# Altium integrated library TI Audio CODEC.IntLib: 199 symbols (part 9 of 17)
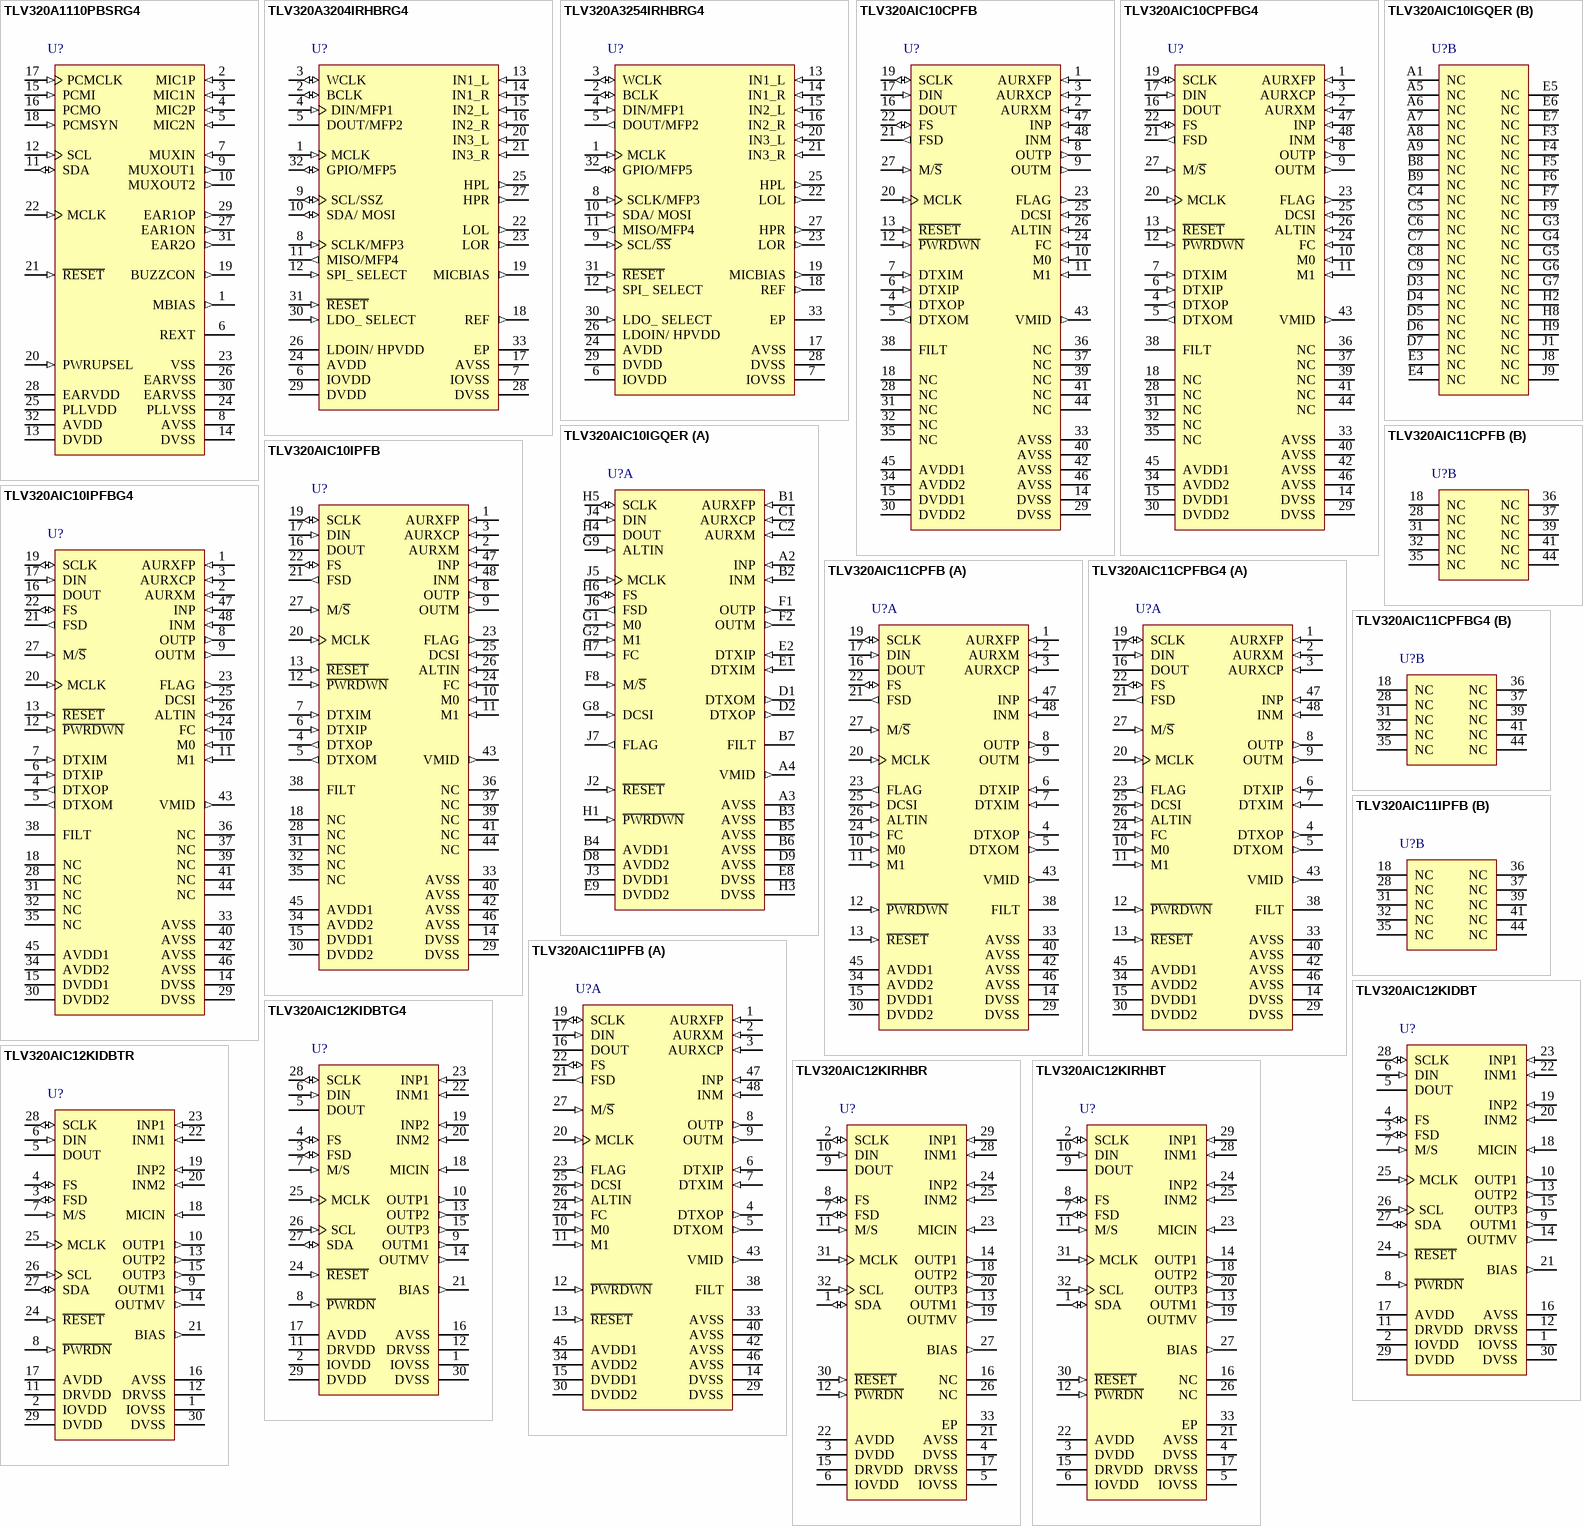
[diagram p21: symbols TLV320A1110PBSRG4 to TLV320AIC12KIRHBT]

## TLV320AIC11CPFB
designator U?
Low-Power Mono Voice Band CODEC with 1 ADC and 1 DAC, 90 dB DAC SNR, 0 to 70 degC, 48-pin TQFP (PFB), Green (RoHS & no Sb/Br); Manufacturer: Texas Instruments; PartNumber: TLV320AIC11CPFB; # ADCs (typ): 1; Additional Features: Low-Voltage I/O Interface; Battery Powered: TRUE; Control Interface: H/W; DAC SNR: 90; Digital Audio Interfaces: DSP; Sampling Rate (Max) (kHz): 22.05; DatasheetVersion: SLWS100A; PackageVersion: Jan-1998; PackageReference: PFB48; PackageDescription: 48-Pin Thin Plastic Quad Flat Pack 0.5 mm Pitch; Supplier 1: Digi-Key; Supplier Part Number 1: 296-2215-ND; Supplier 2: Newark; Supplier Part Number 2: 76C8694; Supplier 3: Mouser; Supplier Part Number 3: 595-TLV320AIC11CPFB; # DACs: 1; Mounting Technology: Surface Mount; Code_JEDEC: MS-026; ComponentLink1Description: Datasheet; ComponentLink1URL: http://www.ti.com/general/docs/lit/getliterature.tsp?genericPartNumber=TLV320AIC11&fileType=pdf
footprint PFB48_N (Thin QFP, 48-Leads, Body 7x7mm, Pitch 0.5mm, IPC Medium Density)
footprint PFB48_L (Thin QFP, 48-Leads, Body 7x7mm, Pitch 0.5mm, IPC High Density)
footprint PFB48_M (Thin QFP, 48-Leads, Body 7x7mm, Pitch 0.5mm, IPC Low Density)
part A pins: 1 AURXFP (in) "Receiver-path amplifier A1 feedback, or noninverting input to auxiliary analog input. It needs to be connected to AVSS if not used. It can also be used for general-purpose amplification.", 2 AURXM (in) "Receiver-path amplifier A1 inverting input, or inverting input to auxiliary analog input. It needs to be connected to AVSS if not used. It can also be used for general-purpose amplification.", 3 AURXCP (in) "Receiver-path/GP amplifier noninverting input. It needs to be connected to AVSS if not used.", 4 DTXOP (out) "Transmitter-path amplifier A3 feedback for positive output. It can also be used for general-purpose amplification.", 5 DTXOM (out) "Transmitter path amplifier A4 feedback for negative output. It can also be used for general-purpose amplification.", 6 DTXIP (in) "Transmitter-path amplifier A4 analog noninverting input. Can also be used for general-purpose amplification.", 7 DTXIM (in) "Transmitter-path amplifier A3 analog inverting input. It can also be used for general-purpose amplification.", 8 OUTP (out) "DAC’s noninverting output. OUTP can also be used alone for single-ended operation.", 9 OUTM (out) "DAC’s inverting output. OUTM is functionally identical with and complementary to OUTP", 10 M0 (in) "Combine with M1 to select serial interface mode (frame-sync mode)", 11 M1 (in) "Combine with M0 to select serial interface mode (frame-sync mode)", 12 ~{PWRDWN} (in) "Power down. When P\W\R\D\W\N\ is pulled low, the device goes into a power-down mode, the serial interface is disabled, and most of the high-speed clocks are disabled. However, all register values are sustained and the device (See Datasheet)", 13 ~{RESET} (in) "Reset. The reset function is provided to initialize all the internal registers to their default values. The serial port can be configured to the default state accordingly. See Appendix A, Register Set, and Subsection 2.2.1, (See Datasheet)", 14 DVSS (power) "Digital ground", 15 DVDD1 (power) "Dedicated 1.1-V to 3.6-V digital power supply for low-voltage I/O", 16 DOUT (hiz) "Data output. DOUT transmits the ADC output bits and registers data, and is synchronized to SCLK and FS. Data is sent out at the rising edge of SCLK when FS is low. DOUT is at high impedance when FS is not activated.", 17 DIN (in) "Data input. DIN receives the DAC input data and register data from the external digital signal processor (DSP), and is synchronized to SCLK and FS. Data is latched at the falling edge of SCLK when FS is low. DIN is at high (See Datasheet)", 19 SCLK (io) "Shift clock. SCLK signal clocks serial data into DIN and out of DOUT during the frame-sync interval. When configured as an output (M/S\ high), SCLK is generated internally by multiplying the frame-sync signal frequency by (See Datasheet)", 20 MCLK (in) "Master clock. MCLK derives the internal clocks of the sigma-delta analog interface circuit.", 21 FSD (out) "Frame-sync delayed output. The FSD output synchronizes a slave device to the frame sync of the master device. FSD is applied to the slave FS input and has the same duration as the master FS signal. Requires a pullup resistor (See Datasheet)", 22 FS (io) "Frame sync. When FS goes low, DIN begins receiving data bits and DOUT begins transmitting data bits. In master mode, FS is internally generated and is low during data transmission to DIN and from DOUT. In slave mode, FS is (See Datasheet)", 23 FLAG (out) "Controlled by bit D4 of control register 3. If D4=0 (default), the FLAG pin outputs the communication flag that goes low/high to indicate primary-communication/secondary-communication interval, respectively. If D4=1, the (See Datasheet)", 24 FC (in) "Hardware request for secondary communication", 25 DCSI (in) "Direct configuration serial input for directly programming of internal control registers", 26 ALTIN (in) "Serial input in the event monitor mode", 27 M/~{S} (in) "Master/slave select input. When M/S\ is high, the device is the master, and when M/S\ is low, it is a slave.", 29 DVSS (power) "Digital ground", 30 DVDD2 (power) "Dedicated 3-V to 5.5-V digital power supply for core CODEC", 33 AVSS (power) "Analog ground", 34 AVDD2 (power) "Analog ADC power supply (3 V to 5.5 V)", 38 FILT "Bandgap filter. FILT is provided for decoupling of the bandgap reference, and provides 2.5 V. The optimal capacitor value is 0.1 μF (ceramic). This voltage node should be loaded only with a high-impedance dc load.", 40 AVSS (power) "Analog ground", 42 AVSS (power) "Analog ground", 43 VMID (out) "Reference voltage output at AVDD/2", 45 AVDD1 (power) "Analog ADC power supply (3 V to 5.5 V)", 46 AVSS (power) "Analog ground", 47 INP (in) "Noninverting input to analog modulator. INP requires an external R-C antialias filter with low output impedance if the internal antialias filter is bypassed.", 48 INM (in) "Inverting input to analog modulator. INM requires an external R-C antialias filter with low output impedance if the internal antialias filter is bypassed."
part B pins: 18 NC "No connection", 28 NC "No connection", 31 NC "No connection", 32 NC "No connection", 35 NC "No connection", 36 NC "No connection", 37 NC "No connection", 39 NC "No connection", 41 NC "No connection", 44 NC "No connection"

## TLV320AIC11CPFBG4
designator U?
Low-Power Mono Voice Band CODEC with 1 ADC and 1 DAC, 90 dB DAC SNR, 0 to 70 degC, 48-pin TQFP (PFB), Green (RoHS & no Sb/Br); Manufacturer: Texas Instruments; PartNumber: TLV320AIC11CPFBG4; # ADCs (typ): 1; Additional Features: Low-Voltage I/O Interface; Battery Powered: TRUE; Control Interface: H/W; DAC SNR: 90; Digital Audio Interfaces: DSP; Sampling Rate (Max) (kHz): 22.05; DatasheetVersion: SLWS100A; PackageVersion: Jan-1998; PackageReference: PFB48; PackageDescription: 48-Pin Thin Plastic Quad Flat Pack 0.5 mm Pitch; Supplier 1: Digi-Key; Supplier Part Number 1: TLV320AIC11CPFBG4-ND; Supplier 2: Newark; Supplier Part Number 2: 54K1332; Supplier 3: Mouser; Supplier Part Number 3: 595-TLV320AIC11CPFBG; # DACs: 1; Mounting Technology: Surface Mount; Code_JEDEC: MS-026; ComponentLink1Description: Datasheet; ComponentLink1URL: http://www.ti.com/general/docs/lit/getliterature.tsp?genericPartNumber=TLV320AIC11&fileType=pdf
footprint PFB48_N (Thin QFP, 48-Leads, Body 7x7mm, Pitch 0.5mm, IPC Medium Density)
footprint PFB48_L (Thin QFP, 48-Leads, Body 7x7mm, Pitch 0.5mm, IPC High Density)
footprint PFB48_M (Thin QFP, 48-Leads, Body 7x7mm, Pitch 0.5mm, IPC Low Density)
part A pins: 1 AURXFP (in) "Receiver-path amplifier A1 feedback, or noninverting input to auxiliary analog input. It needs to be connected to AVSS if not used. It can also be used for general-purpose amplification.", 2 AURXM (in) "Receiver-path amplifier A1 inverting input, or inverting input to auxiliary analog input. It needs to be connected to AVSS if not used. It can also be used for general-purpose amplification.", 3 AURXCP (in) "Receiver-path/GP amplifier noninverting input. It needs to be connected to AVSS if not used.", 4 DTXOP (out) "Transmitter-path amplifier A3 feedback for positive output. It can also be used for general-purpose amplification.", 5 DTXOM (out) "Transmitter path amplifier A4 feedback for negative output. It can also be used for general-purpose amplification.", 6 DTXIP (in) "Transmitter-path amplifier A4 analog noninverting input. Can also be used for general-purpose amplification.", 7 DTXIM (in) "Transmitter-path amplifier A3 analog inverting input. It can also be used for general-purpose amplification.", 8 OUTP (out) "DAC’s noninverting output. OUTP can also be used alone for single-ended operation.", 9 OUTM (out) "DAC’s inverting output. OUTM is functionally identical with and complementary to OUTP", 10 M0 (in) "Combine with M1 to select serial interface mode (frame-sync mode)", 11 M1 (in) "Combine with M0 to select serial interface mode (frame-sync mode)", 12 ~{PWRDWN} (in) "Power down. When P\W\R\D\W\N\ is pulled low, the device goes into a power-down mode, the serial interface is disabled, and most of the high-speed clocks are disabled. However, all register values are sustained and the device (See Datasheet)", 13 ~{RESET} (in) "Reset. The reset function is provided to initialize all the internal registers to their default values. The serial port can be configured to the default state accordingly. See Appendix A, Register Set, and Subsection 2.2.1, (See Datasheet)", 14 DVSS (power) "Digital ground", 15 DVDD1 (power) "Dedicated 1.1-V to 3.6-V digital power supply for low-voltage I/O", 16 DOUT (hiz) "Data output. DOUT transmits the ADC output bits and registers data, and is synchronized to SCLK and FS. Data is sent out at the rising edge of SCLK when FS is low. DOUT is at high impedance when FS is not activated.", 17 DIN (in) "Data input. DIN receives the DAC input data and register data from the external digital signal processor (DSP), and is synchronized to SCLK and FS. Data is latched at the falling edge of SCLK when FS is low. DIN is at high (See Datasheet)", 19 SCLK (io) "Shift clock. SCLK signal clocks serial data into DIN and out of DOUT during the frame-sync interval. When configured as an output (M/S\ high), SCLK is generated internally by multiplying the frame-sync signal frequency by (See Datasheet)", 20 MCLK (in) "Master clock. MCLK derives the internal clocks of the sigma-delta analog interface circuit.", 21 FSD (out) "Frame-sync delayed output. The FSD output synchronizes a slave device to the frame sync of the master device. FSD is applied to the slave FS input and has the same duration as the master FS signal. Requires a pullup resistor (See Datasheet)", 22 FS (io) "Frame sync. When FS goes low, DIN begins receiving data bits and DOUT begins transmitting data bits. In master mode, FS is internally generated and is low during data transmission to DIN and from DOUT. In slave mode, FS is (See Datasheet)", 23 FLAG (out) "Controlled by bit D4 of control register 3. If D4=0 (default), the FLAG pin outputs the communication flag that goes low/high to indicate primary-communication/secondary-communication interval, respectively. If D4=1, the (See Datasheet)", 24 FC (in) "Hardware request for secondary communication", 25 DCSI (in) "Direct configuration serial input for directly programming of internal control registers", 26 ALTIN (in) "Serial input in the event monitor mode", 27 M/~{S} (in) "Master/slave select input. When M/S\ is high, the device is the master, and when M/S\ is low, it is a slave.", 29 DVSS (power) "Digital ground", 30 DVDD2 (power) "Dedicated 3-V to 5.5-V digital power supply for core CODEC", 33 AVSS (power) "Analog ground", 34 AVDD2 (power) "Analog ADC power supply (3 V to 5.5 V)", 38 FILT "Bandgap filter. FILT is provided for decoupling of the bandgap reference, and provides 2.5 V. The optimal capacitor value is 0.1 μF (ceramic). This voltage node should be loaded only with a high-impedance dc load.", 40 AVSS (power) "Analog ground", 42 AVSS (power) "Analog ground", 43 VMID (out) "Reference voltage output at AVDD/2", 45 AVDD1 (power) "Analog ADC power supply (3 V to 5.5 V)", 46 AVSS (power) "Analog ground", 47 INP (in) "Noninverting input to analog modulator. INP requires an external R-C antialias filter with low output impedance if the internal antialias filter is bypassed.", 48 INM (in) "Inverting input to analog modulator. INM requires an external R-C antialias filter with low output impedance if the internal antialias filter is bypassed."
part B pins: 18 NC "No connection", 28 NC "No connection", 31 NC "No connection", 32 NC "No connection", 35 NC "No connection", 36 NC "No connection", 37 NC "No connection", 39 NC "No connection", 41 NC "No connection", 44 NC "No connection"

## TLV320AIC11IPFB
designator U?
Low-Power Mono Voice Band CODEC, 90 dB DAC SNR, -40 to 85 degC, 48-pin TQFP (PFB), Green (RoHS & no Sb/Br); Manufacturer: Texas Instruments; PartNumber: TLV320AIC11IPFB; # ADCs (typ): 1; Additional Features: Low-Voltage I/O Interface; Battery Powered: TRUE; Control Interface: H/W; DAC SNR: 90; Digital Audio Interfaces: DSP; Sampling Rate (Max) (kHz): 22.05; DatasheetVersion: SLWS100A; PackageVersion: Jan-1998; PackageReference: PFB48; PackageDescription: 48-Pin Thin Plastic Quad Flat Pack 0.5 mm Pitch; Supplier 1: Digi-Key; Supplier Part Number 1: 296-10703-ND; Supplier 2: Newark; Supplier Part Number 2: 76C8696; Supplier 3: Mouser; Supplier Part Number 3: 595-TLV320AIC11IPFB; # DACs: 1; Mounting Technology: Surface Mount; Code_JEDEC: MS-026; ComponentLink1Description: Datasheet; ComponentLink1URL: http://www.ti.com/general/docs/lit/getliterature.tsp?genericPartNumber=TLV320AIC11&fileType=pdf
footprint PFB48_N (Thin QFP, 48-Leads, Body 7x7mm, Pitch 0.5mm, IPC Medium Density)
footprint PFB48_L (Thin QFP, 48-Leads, Body 7x7mm, Pitch 0.5mm, IPC High Density)
footprint PFB48_M (Thin QFP, 48-Leads, Body 7x7mm, Pitch 0.5mm, IPC Low Density)
part A pins: 1 AURXFP (in) "Receiver-path amplifier A1 feedback, or noninverting input to auxiliary analog input. It needs to be connected to AVSS if not used. It can also be used for general-purpose amplification.", 2 AURXM (in) "Receiver-path amplifier A1 inverting input, or inverting input to auxiliary analog input. It needs to be connected to AVSS if not used. It can also be used for general-purpose amplification.", 3 AURXCP (in) "Receiver-path/GP amplifier noninverting input. It needs to be connected to AVSS if not used.", 4 DTXOP (out) "Transmitter-path amplifier A3 feedback for positive output. It can also be used for general-purpose amplification.", 5 DTXOM (out) "Transmitter path amplifier A4 feedback for negative output. It can also be used for general-purpose amplification.", 6 DTXIP (in) "Transmitter-path amplifier A4 analog noninverting input. Can also be used for general-purpose amplification.", 7 DTXIM (in) "Transmitter-path amplifier A3 analog inverting input. It can also be used for general-purpose amplification.", 8 OUTP (out) "DAC’s noninverting output. OUTP can also be used alone for single-ended operation.", 9 OUTM (out) "DAC’s inverting output. OUTM is functionally identical with and complementary to OUTP", 10 M0 (in) "Combine with M1 to select serial interface mode (frame-sync mode)", 11 M1 (in) "Combine with M0 to select serial interface mode (frame-sync mode)", 12 ~{PWRDWN} (in) "Power down. When P\W\R\D\W\N\ is pulled low, the device goes into a power-down mode, the serial interface is disabled, and most of the high-speed clocks are disabled. However, all register values are sustained and the device (See Datasheet)", 13 ~{RESET} (in) "Reset. The reset function is provided to initialize all the internal registers to their default values. The serial port can be configured to the default state accordingly. See Appendix A, Register Set, and Subsection 2.2.1, (See Datasheet)", 14 DVSS (power) "Digital ground", 15 DVDD1 (power) "Dedicated 1.1-V to 3.6-V digital power supply for low-voltage I/O", 16 DOUT (hiz) "Data output. DOUT transmits the ADC output bits and registers data, and is synchronized to SCLK and FS. Data is sent out at the rising edge of SCLK when FS is low. DOUT is at high impedance when FS is not activated.", 17 DIN (in) "Data input. DIN receives the DAC input data and register data from the external digital signal processor (DSP), and is synchronized to SCLK and FS. Data is latched at the falling edge of SCLK when FS is low. DIN is at high (See Datasheet)", 19 SCLK (io) "Shift clock. SCLK signal clocks serial data into DIN and out of DOUT during the frame-sync interval. When configured as an output (M/S\ high), SCLK is generated internally by multiplying the frame-sync signal frequency by (See Datasheet)", 20 MCLK (in) "Master clock. MCLK derives the internal clocks of the sigma-delta analog interface circuit.", 21 FSD (out) "Frame-sync delayed output. The FSD output synchronizes a slave device to the frame sync of the master device. FSD is applied to the slave FS input and has the same duration as the master FS signal. Requires a pullup resistor (See Datasheet)", 22 FS (io) "Frame sync. When FS goes low, DIN begins receiving data bits and DOUT begins transmitting data bits. In master mode, FS is internally generated and is low during data transmission to DIN and from DOUT. In slave mode, FS is (See Datasheet)", 23 FLAG (out) "Controlled by bit D4 of control register 3. If D4=0 (default), the FLAG pin outputs the communication flag that goes low/high to indicate primary-communication/secondary-communication interval, respectively. If D4=1, the (See Datasheet)", 24 FC (in) "Hardware request for secondary communication", 25 DCSI (in) "Direct configuration serial input for directly programming of internal control registers", 26 ALTIN (in) "Serial input in the event monitor mode", 27 M/~{S} (in) "Master/slave select input. When M/S\ is high, the device is the master, and when M/S\ is low, it is a slave.", 29 DVSS (power) "Digital ground", 30 DVDD2 (power) "Dedicated 3-V to 5.5-V digital power supply for core CODEC", 33 AVSS (power) "Analog ground", 34 AVDD2 (power) "Analog ADC power supply (3 V to 5.5 V)", 38 FILT "Bandgap filter. FILT is provided for decoupling of the bandgap reference, and provides 2.5 V. The optimal capacitor value is 0.1 μF (ceramic). This voltage node should be loaded only with a high-impedance dc load.", 40 AVSS (power) "Analog ground", 42 AVSS (power) "Analog ground", 43 VMID (out) "Reference voltage output at AVDD/2", 45 AVDD1 (power) "Analog ADC power supply (3 V to 5.5 V)", 46 AVSS (power) "Analog ground", 47 INP (in) "Noninverting input to analog modulator. INP requires an external R-C antialias filter with low output impedance if the internal antialias filter is bypassed.", 48 INM (in) "Inverting input to analog modulator. INM requires an external R-C antialias filter with low output impedance if the internal antialias filter is bypassed."
part B pins: 18 NC "No connection", 28 NC "No connection", 31 NC "No connection", 32 NC "No connection", 35 NC "No connection", 36 NC "No connection", 37 NC "No connection", 39 NC "No connection", 41 NC "No connection", 44 NC "No connection"

## TLV320AIC12KIDBT
designator U?
Low-Power Mono Voice Band CODEC with 8-ohm Speaker Amplifier, 1 ADC and 1 DAC, 92 dB DAC SNR, -40 to 85 degC, 30-pin TSSOP (DBT), Green (RoHS & no Sb/Br); Manufacturer: Texas Instruments; PartNumber: TLV320AIC12KIDBT; # ADCs (typ): 1; Additional Features: 8 Ohm Speaker Amplifier; Battery Powered: TRUE; Control Interface: I2C, S2C; DAC SNR: 92; Digital Audio Interfaces: DSP, SMART TDM; Sampling Rate (Max) (kHz): 26; Speaker Amp Output Power(Max)(W): 0.19; Speaker Amp Type: Class-AB; DatasheetVersion: SLWS115E; PackageVersion: Sep-2005; PackageReference: DBT30; PackageDescription: 30-Pin Thin Shrink Small Outline Package 0.5 mm Pitch; Supplier 1: Digi-Key; Supplier Part Number 1: 296-19421-5-ND; Supplier 2: Newark; Supplier Part Number 2: 57K1261; Supplier 3: Mouser; Supplier Part Number 3: 595-LV320AIC12KIDBT; # DACs: 1; Headphone Driver: TRUE; Speaker Amp Ouputs: 1; Mounting Technology: Surface Mount; Code_JEDEC: MO-153; ComponentLink1Description: Datasheet; ComponentLink1URL: http://www.ti.com/general/docs/lit/getliterature.tsp?genericPartNumber=TLV320AIC12K&fileType=pdf
footprint DBT30_N (TSSOP, 30-Leads, Body 7.8x4.4mm, Pitch 0.5mm, IPC Medium Density)
footprint DBT30_L (TSSOP, 30-Leads, Body 7.8x4.4mm, Pitch 0.5mm, IPC High Density)
footprint DBT30_M (TSSOP, 30-Leads, Body 7.8x4.4mm, Pitch 0.5mm, IPC Low Density)
pins: 1 IOVSS (power) "Digital I/O ground", 2 IOVDD (power) "Digital I/O power supply", 3 FSD (io) "Frame sync delayed output. The FSD output synchronizes a slave device to the frame sync of the master device. FSD is applied to the slave FS input and is the same duration as the master FS signal. This pin must be pulled low (See Datasheet)", 4 FS (io) "Frame sync. When FS goes low, DIN begins receiving data bits and DOUT begins transmitting data bits. In master mode, FS is internally generated. In slave mode, FS is externally generated.", 5 DOUT (hiz) "Data output. DOUT transmits the ADC output bits and registers data,and is synchronized to SCLK and FS. Data is sent out at the rising edge of SCLK. Outside data/control frame, DOUT is put in 3-state.", 6 DIN (in) "Data input. DIN receives the DAC input data and register data from the external DSP (digital signal processor) and is synchronized to SCLK and FS. Data is latched at the falling edge of SCLK.", 7 M/S (in) "Master/slave select input. When M/S is high, the device is the master,and when low it is a slave.", 8 ~{PWRDN} (in) "Power down. When P\W\R\D\N\ is pulled low, the device goes into a power-down mode, the serial interface is disabled, and most of the high-speed clocks are disabled. However, all the register values are sustained and the (See Datasheet)", 9 OUTM1 (out) "Inverting output of the DAC. OUTM1 is functionally identical with and complementary to OUTP1. This differential output can drive a maximum load of 600 ohm. This output can also be used alone for single-ended operation.", 10 OUTP1 (out) "Noninverting output of the DAC. This differential output can drive a maximum load of 600 ohm. This output can also be used alone for single-ended operation.", 11 DRVDD (power) "Analog power supply for the 16-ohm drivers OUTP2 and OUTP3", 12 DRVSS (power) "Analog ground for the 16-ohm drivers OUTP2 and OUTP3", 13 OUTP2 (out) "Analog output number 2 from the 16-ohm driver. This output can drive a maximum load of 16 ohm, and also can be configured as either single-ended output or differential output by the control register 6.", 14 OUTMV (out) "Programmable virtual ground for the output of OUTP2 and OUTP3 (see the Register Map).", 15 OUTP3 (out) "Analog output number 3 from the 16-ohm driver. This output can drive a maximum load of 16 ohm, and also be configured as either single-ended output or differential output by the control register 6.", 16 AVSS (power) "Analog ground", 17 AVDD (power) "Analog power supply", 18 MICIN (in) "MIC preamplifier input. It must be connected to AVSS if not used.", 19 INP2 (in) "Noninverting analog input 2. It must be connected to AVSS if not used.", 20 INM2 (in) "Inverting analog input 2. It must be connected to AVSS if not used.", 21 BIAS (out) "Bias output voltage is software selectable between 1.35 V and 2.35 V.Its output current is 5 mA.", 22 INM1 (in) "Inverting analog input 1. It must be connected to AVSS if not used.", 23 INP1 (in) "Noninverting analog input 1. It must be connected to AVSS if not used.", 24 ~{RESET} (in) "Hardware reset. The reset function is provided to initialize all of the internal registers to their default values. The serial port is configured to the default state accordingly.", 25 MCLK (in) "Master clock. MCLK derives the internal clocks of the sigma-delta analog interface circuit.", 26 SCL (in) "Programmable host port (I2C or S2C) clock input.", 27 SDA (io) "Programmable host port (I2C or S2C) data line.", 28 SCLK (io) "Shift clock. SCLK signal clocks serial data into DIN and out of DOUT during the frame-sync interval. When configured as an output (M/S high), SCLK is generated internally by multiplying the frame-sync signal frequency by 16 (See Datasheet)", 29 DVDD (power) "Digital power supply", 30 DVSS (power) "Digital ground"

## TLV320AIC12KIDBTG4
designator U?
Low-Power Mono Voice Band CODEC with 8-ohm Speaker Amplifier, 1 ADC and 1 DAC, 92 dB DAC SNR, -40 to 85 degC, 30-pin TSSOP (DBT), Green (RoHS & no Sb/Br); Manufacturer: Texas Instruments; PartNumber: TLV320AIC12KIDBTG4; # ADCs (typ): 1; Additional Features: 8 Ohm Speaker Amplifier; Battery Powered: TRUE; Control Interface: I2C, S2C; DAC SNR: 92; Digital Audio Interfaces: DSP, SMART TDM; Sampling Rate (Max) (kHz): 26; Speaker Amp Output Power(Max)(W): 0.19; Speaker Amp Type: Class-AB; DatasheetVersion: SLWS115E; PackageVersion: Sep-2005; PackageReference: DBT30; PackageDescription: 30-Pin Thin Shrink Small Outline Package 0.5 mm Pitch; Supplier 1: Digi-Key; Supplier Part Number 1: TLV320AIC12KIDBTG4-ND; Supplier 2: Newark; Supplier Part Number 2: 67K8536; Supplier 3: Mouser; Supplier Part Number 3: 595-TLV320AIC12KIDBT; # DACs: 1; Headphone Driver: TRUE; Speaker Amp Ouputs: 1; Mounting Technology: Surface Mount; Code_JEDEC: MO-153; ComponentLink1Description: Datasheet; ComponentLink1URL: http://www.ti.com/general/docs/lit/getliterature.tsp?genericPartNumber=TLV320AIC12K&fileType=pdf
footprint DBT30_N (TSSOP, 30-Leads, Body 7.8x4.4mm, Pitch 0.5mm, IPC Medium Density)
footprint DBT30_L (TSSOP, 30-Leads, Body 7.8x4.4mm, Pitch 0.5mm, IPC High Density)
footprint DBT30_M (TSSOP, 30-Leads, Body 7.8x4.4mm, Pitch 0.5mm, IPC Low Density)
pins: 1 IOVSS (power) "Digital I/O ground", 2 IOVDD (power) "Digital I/O power supply", 3 FSD (io) "Frame sync delayed output. The FSD output synchronizes a slave device to the frame sync of the master device. FSD is applied to the slave FS input and is the same duration as the master FS signal. This pin must be pulled low (See Datasheet)", 4 FS (io) "Frame sync. When FS goes low, DIN begins receiving data bits and DOUT begins transmitting data bits. In master mode, FS is internally generated. In slave mode, FS is externally generated.", 5 DOUT (hiz) "Data output. DOUT transmits the ADC output bits and registers data,and is synchronized to SCLK and FS. Data is sent out at the rising edge of SCLK. Outside data/control frame, DOUT is put in 3-state.", 6 DIN (in) "Data input. DIN receives the DAC input data and register data from the external DSP (digital signal processor) and is synchronized to SCLK and FS. Data is latched at the falling edge of SCLK.", 7 M/S (in) "Master/slave select input. When M/S is high, the device is the master,and when low it is a slave.", 8 ~{PWRDN} (in) "Power down. When P\W\R\D\N\ is pulled low, the device goes into a power-down mode, the serial interface is disabled, and most of the high-speed clocks are disabled. However, all the register values are sustained and the (See Datasheet)", 9 OUTM1 (out) "Inverting output of the DAC. OUTM1 is functionally identical with and complementary to OUTP1. This differential output can drive a maximum load of 600 ohm. This output can also be used alone for single-ended operation.", 10 OUTP1 (out) "Noninverting output of the DAC. This differential output can drive a maximum load of 600 ohm. This output can also be used alone for single-ended operation.", 11 DRVDD (power) "Analog power supply for the 16-ohm drivers OUTP2 and OUTP3", 12 DRVSS (power) "Analog ground for the 16-ohm drivers OUTP2 and OUTP3", 13 OUTP2 (out) "Analog output number 2 from the 16-ohm driver. This output can drive a maximum load of 16 ohm, and also can be configured as either single-ended output or differential output by the control register 6.", 14 OUTMV (out) "Programmable virtual ground for the output of OUTP2 and OUTP3 (see the Register Map).", 15 OUTP3 (out) "Analog output number 3 from the 16-ohm driver. This output can drive a maximum load of 16 ohm, and also be configured as either single-ended output or differential output by the control register 6.", 16 AVSS (power) "Analog ground", 17 AVDD (power) "Analog power supply", 18 MICIN (in) "MIC preamplifier input. It must be connected to AVSS if not used.", 19 INP2 (in) "Noninverting analog input 2. It must be connected to AVSS if not used.", 20 INM2 (in) "Inverting analog input 2. It must be connected to AVSS if not used.", 21 BIAS (out) "Bias output voltage is software selectable between 1.35 V and 2.35 V.Its output current is 5 mA.", 22 INM1 (in) "Inverting analog input 1. It must be connected to AVSS if not used.", 23 INP1 (in) "Noninverting analog input 1. It must be connected to AVSS if not used.", 24 ~{RESET} (in) "Hardware reset. The reset function is provided to initialize all of the internal registers to their default values. The serial port is configured to the default state accordingly.", 25 MCLK (in) "Master clock. MCLK derives the internal clocks of the sigma-delta analog interface circuit.", 26 SCL (in) "Programmable host port (I2C or S2C) clock input.", 27 SDA (io) "Programmable host port (I2C or S2C) data line.", 28 SCLK (io) "Shift clock. SCLK signal clocks serial data into DIN and out of DOUT during the frame-sync interval. When configured as an output (M/S high), SCLK is generated internally by multiplying the frame-sync signal frequency by 16 (See Datasheet)", 29 DVDD (power) "Digital power supply", 30 DVSS (power) "Digital ground"

## TLV320AIC12KIDBTR
designator U?
Low-Power Mono Voice Band CODEC with 8-ohm Speaker Amplifier, 1 ADC and 1 DAC, 92 dB DAC SNR, -40 to 85 degC, 30-pin TSSOP (DBT), Green (RoHS & no Sb/Br); Manufacturer: Texas Instruments; PartNumber: TLV320AIC12KIDBTR; # ADCs (typ): 1; Additional Features: 8 Ohm Speaker Amplifier; Battery Powered: TRUE; Control Interface: I2C, S2C; DAC SNR: 92; Digital Audio Interfaces: DSP, SMART TDM; Sampling Rate (Max) (kHz): 26; Speaker Amp Output Power(Max)(W): 0.19; Speaker Amp Type: Class-AB; DatasheetVersion: SLWS115E; PackageVersion: Sep-2005; PackageReference: DBT30; PackageDescription: 30-Pin Thin Shrink Small Outline Package 0.5 mm Pitch; Supplier 1: Digi-Key; Supplier Part Number 1: TLV320AIC12KIDBTR-ND; Supplier 2: Newark; Supplier Part Number 2: 63K6490; Supplier 3: Mouser; Supplier Part Number 3: 595-LV320AIC12KIDBTR; # DACs: 1; Headphone Driver: TRUE; Speaker Amp Ouputs: 1; Mounting Technology: Surface Mount; Code_JEDEC: MO-153; ComponentLink1Description: Datasheet; ComponentLink1URL: http://www.ti.com/general/docs/lit/getliterature.tsp?genericPartNumber=TLV320AIC12K&fileType=pdf
footprint DBT30_N (TSSOP, 30-Leads, Body 7.8x4.4mm, Pitch 0.5mm, IPC Medium Density)
footprint DBT30_L (TSSOP, 30-Leads, Body 7.8x4.4mm, Pitch 0.5mm, IPC High Density)
footprint DBT30_M (TSSOP, 30-Leads, Body 7.8x4.4mm, Pitch 0.5mm, IPC Low Density)
pins: 1 IOVSS (power) "Digital I/O ground", 2 IOVDD (power) "Digital I/O power supply", 3 FSD (io) "Frame sync delayed output. The FSD output synchronizes a slave device to the frame sync of the master device. FSD is applied to the slave FS input and is the same duration as the master FS signal. This pin must be pulled low (See Datasheet)", 4 FS (io) "Frame sync. When FS goes low, DIN begins receiving data bits and DOUT begins transmitting data bits. In master mode, FS is internally generated. In slave mode, FS is externally generated.", 5 DOUT (hiz) "Data output. DOUT transmits the ADC output bits and registers data,and is synchronized to SCLK and FS. Data is sent out at the rising edge of SCLK. Outside data/control frame, DOUT is put in 3-state.", 6 DIN (in) "Data input. DIN receives the DAC input data and register data from the external DSP (digital signal processor) and is synchronized to SCLK and FS. Data is latched at the falling edge of SCLK.", 7 M/S (in) "Master/slave select input. When M/S is high, the device is the master,and when low it is a slave.", 8 ~{PWRDN} (in) "Power down. When P\W\R\D\N\ is pulled low, the device goes into a power-down mode, the serial interface is disabled, and most of the high-speed clocks are disabled. However, all the register values are sustained and the (See Datasheet)", 9 OUTM1 (out) "Inverting output of the DAC. OUTM1 is functionally identical with and complementary to OUTP1. This differential output can drive a maximum load of 600 ohm. This output can also be used alone for single-ended operation.", 10 OUTP1 (out) "Noninverting output of the DAC. This differential output can drive a maximum load of 600 ohm. This output can also be used alone for single-ended operation.", 11 DRVDD (power) "Analog power supply for the 16-ohm drivers OUTP2 and OUTP3", 12 DRVSS (power) "Analog ground for the 16-ohm drivers OUTP2 and OUTP3", 13 OUTP2 (out) "Analog output number 2 from the 16-ohm driver. This output can drive a maximum load of 16 ohm, and also can be configured as either single-ended output or differential output by the control register 6.", 14 OUTMV (out) "Programmable virtual ground for the output of OUTP2 and OUTP3 (see the Register Map).", 15 OUTP3 (out) "Analog output number 3 from the 16-ohm driver. This output can drive a maximum load of 16 ohm, and also be configured as either single-ended output or differential output by the control register 6.", 16 AVSS (power) "Analog ground", 17 AVDD (power) "Analog power supply", 18 MICIN (in) "MIC preamplifier input. It must be connected to AVSS if not used.", 19 INP2 (in) "Noninverting analog input 2. It must be connected to AVSS if not used.", 20 INM2 (in) "Inverting analog input 2. It must be connected to AVSS if not used.", 21 BIAS (out) "Bias output voltage is software selectable between 1.35 V and 2.35 V.Its output current is 5 mA.", 22 INM1 (in) "Inverting analog input 1. It must be connected to AVSS if not used.", 23 INP1 (in) "Noninverting analog input 1. It must be connected to AVSS if not used.", 24 ~{RESET} (in) "Hardware reset. The reset function is provided to initialize all of the internal registers to their default values. The serial port is configured to the default state accordingly.", 25 MCLK (in) "Master clock. MCLK derives the internal clocks of the sigma-delta analog interface circuit.", 26 SCL (in) "Programmable host port (I2C or S2C) clock input.", 27 SDA (io) "Programmable host port (I2C or S2C) data line.", 28 SCLK (io) "Shift clock. SCLK signal clocks serial data into DIN and out of DOUT during the frame-sync interval. When configured as an output (M/S high), SCLK is generated internally by multiplying the frame-sync signal frequency by 16 (See Datasheet)", 29 DVDD (power) "Digital power supply", 30 DVSS (power) "Digital ground"

## TLV320AIC12KIRHBR
designator U?
Low-Power Mono Voice Band CODEC with 8-ohm Speaker Amplifier, 1 ADC and 1 DAC, 92 dB DAC SNR, -40 to 85 degC, 32-pin QFN (RHB), Green (RoHS & no Sb/Br); Manufacturer: Texas Instruments; PartNumber: TLV320AIC12KIRHBR; # ADCs (typ): 1; Additional Features: 8 Ohm Speaker Amplifier; Battery Powered: TRUE; Control Interface: I2C, S2C; DAC SNR: 92; Digital Audio Interfaces: DSP, SMART TDM; Sampling Rate (Max) (kHz): 26; Speaker Amp Output Power(Max)(W): 0.19; Speaker Amp Type: Class-AB; DatasheetVersion: SLWS115E; PackageVersion: revD, Jun-2011; PackageReference: RHB32-3450X3450TP; PackageDescription: 32-Pin Plastic Quad Flat No-Lead, 5 x 5 mm Body, 0.5 mm Pitch, 3.45 x 3.45 mm Exposed Pad; Supplier 1: Digi-Key; Supplier Part Number 1: 296-21521-2-ND; Supplier 2: Digi-Key; Supplier Part Number 2: 296-21521-1-ND; Supplier 3: Digi-Key; Supplier Part Number 3: 296-21521-6-ND; Supplier 4: Newark; Supplier Part Number 4: 30M1787; Supplier 5: Mouser; Supplier Part Number 5: 595-LV320AIC12KIRHBR; # DACs: 1; Headphone Driver: TRUE; Speaker Amp Ouputs: 1; Mounting Technology: Surface Mount; Code_JEDEC: MO-220; ComponentLink1Description: Datasheet; ComponentLink1URL: http://www.ti.com/general/docs/lit/getliterature.tsp?genericPartNumber=TLV320AIC12K&fileType=pdf
footprint RHB32-3450X3450TP (QFN, 32-Leads, Body 5x5mm, Pitch 0.5mm, Thermal Pad 3.45x3.45mm, TI Recommended)
pins: 1 SDA (io) "Programmable host port (I2C or S2C) data line.", 2 SCLK (io) "Shift clock. SCLK signal clocks serial data into DIN and out of DOUT during the frame-sync interval. When configured as an output (M/S high), SCLK is generated internally by multiplying the frame-sync signal frequency by 16 (See Datasheet)", 3 DVDD (power) "Digital power supply", 4 DVSS (power) "Digital ground", 5 IOVSS (power) "Digital I/O ground", 6 IOVDD (power) "Digital I/O power supply", 7 FSD (io) "Frame sync delayed output. The FSD output synchronizes a slave device to the frame sync of the master device. FSD is applied to the slave FS input and is the same duration as the master FS signal. This pin must be pulled low (See Datasheet)", 8 FS (io) "Frame sync. When FS goes low, DIN begins receiving data bits and DOUT begins transmitting data bits. In master mode, FS is internally generated. In slave mode, FS is externally generated.", 9 DOUT (hiz) "Data output. DOUT transmits the ADC output bits and registers data,and is synchronized to SCLK and FS. Data is sent out at the rising edge of SCLK. Outside data/control frame, DOUT is put in 3-state.", 10 DIN (in) "Data input. DIN receives the DAC input data and register data from the external DSP (digital signal processor) and is synchronized to SCLK and FS. Data is latched at the falling edge of SCLK.", 11 M/S (in) "Master/slave select input. When M/S is high, the device is the master, and when low it is a slave.", 12 ~{PWRDN} (in) "Power down. When P\W\R\D\N\ is pulled low, the device goes into a power-down mode, the serial interface is disabled, and most of the high-speed clocks are disabled. However, all the register values are sustained and the (See Datasheet)", 13 OUTM1 (out) "Inverting output of the DAC. OUTM1 is functionally identical with and complementary to OUTP1. This differential output can drive a maximum load of 600 ohm. This output can also be used alone for single-ended operation.", 14 OUTP1 (out) "Noninverting output of the DAC. This differential output can drive a maximum load of 600 ohm. This output can also be used alone for single-ended operation.", 15 DRVDD (power) "Analog power supply for the 16-ohm drivers OUTP2 and OUTP3", 16 NC "No connection", 17 DRVSS (power) "Analog ground for the 16-ohm drivers OUTP2 and OUTP3", 18 OUTP2 (out) "Analog output number 2 from the 16-ohm driver. This output can drive a maximum load of 16 ohm, and also can be configured as either single-ended output or differential output by the control register 6.", 19 OUTMV (out) "Programmable virtual ground for the output of OUTP2 and OUTP3 (see the Register Map).", 20 OUTP3 (out) "Analog output number 3 from the 16-ohm driver. This output can drive a maximum load of 16 ohm, and also be configured as either single-ended output or differential output by the control register 6.", 21 AVSS (power) "Analog ground", 22 AVDD (power) "Analog power supply", 23 MICIN (in) "MIC preamplifier input. It must be connected to AVSS if not used.", 24 INP2 (in) "Noninverting analog input 2. It must be connected to AVSS if not used.", 25 INM2 (in) "Inverting analog input 2. It must be connected to AVSS if not used.", 26 NC "No connection", 27 BIAS (out) "Bias output voltage is software selectable between 1.35 V and 2.35 V. Its output current is 5 mA.", 28 INM1 (in) "Inverting analog input 1. It must be connected to AVSS if not used.", 29 INP1 (in) "Noninverting analog input 1. It must be connected to AVSS if not used.", 30 ~{RESET} (in) "Hardware reset. The reset function is provided to initialize all of the internal registers to their default values. The serial port is configured to the default state accordingly.", 31 MCLK (in) "Master clock. MCLK derives the internal clocks of the sigma-delta analog interface circuit.", 32 SCL (in) "Programmable host port (I2C or S2C) clock input.", 33 EP (power) "Exposed Thermal Pad"

## TLV320AIC12KIRHBT
designator U?
Low-Power Mono Voice Band CODEC with 8-ohm Speaker Amplifier, 1 ADC and 1 DAC, 92 dB DAC SNR, -40 to 85 degC, 32-pin QFN (RHB), Green (RoHS & no Sb/Br); Manufacturer: Texas Instruments; PartNumber: TLV320AIC12KIRHBT; # ADCs (typ): 1; Additional Features: 8 Ohm Speaker Amplifier; Battery Powered: TRUE; Control Interface: I2C, S2C; DAC SNR: 92; Digital Audio Interfaces: DSP, SMART TDM; Sampling Rate (Max) (kHz): 26; Speaker Amp Output Power(Max)(W): 0.19; Speaker Amp Type: Class-AB; DatasheetVersion: SLWS115E; PackageVersion: revD, Jun-2011; PackageReference: RHB32-3450X3450TP; PackageDescription: 32-Pin Plastic Quad Flat No-Lead, 5 x 5 mm Body, 0.5 mm Pitch, 3.45 x 3.45 mm Exposed Pad; Supplier 1: Digi-Key; Supplier Part Number 1: TLV320AIC12KIRHBT-ND; Supplier 2: Newark; Supplier Part Number 2: 30M1788; Supplier 3: Mouser; Supplier Part Number 3: 595-LV320AIC12KIRHBT; # DACs: 1; Headphone Driver: TRUE; Speaker Amp Ouputs: 1; Mounting Technology: Surface Mount; Code_JEDEC: MO-220; ComponentLink1Description: Datasheet; ComponentLink1URL: http://www.ti.com/general/docs/lit/getliterature.tsp?genericPartNumber=TLV320AIC12K&fileType=pdf
footprint RHB32-3450X3450TP (QFN, 32-Leads, Body 5x5mm, Pitch 0.5mm, Thermal Pad 3.45x3.45mm, TI Recommended)
pins: 1 SDA (io) "Programmable host port (I2C or S2C) data line.", 2 SCLK (io) "Shift clock. SCLK signal clocks serial data into DIN and out of DOUT during the frame-sync interval. When configured as an output (M/S high), SCLK is generated internally by multiplying the frame-sync signal frequency by 16 (See Datasheet)", 3 DVDD (power) "Digital power supply", 4 DVSS (power) "Digital ground", 5 IOVSS (power) "Digital I/O ground", 6 IOVDD (power) "Digital I/O power supply", 7 FSD (io) "Frame sync delayed output. The FSD output synchronizes a slave device to the frame sync of the master device. FSD is applied to the slave FS input and is the same duration as the master FS signal. This pin must be pulled low (See Datasheet)", 8 FS (io) "Frame sync. When FS goes low, DIN begins receiving data bits and DOUT begins transmitting data bits. In master mode, FS is internally generated. In slave mode, FS is externally generated.", 9 DOUT (hiz) "Data output. DOUT transmits the ADC output bits and registers data,and is synchronized to SCLK and FS. Data is sent out at the rising edge of SCLK. Outside data/control frame, DOUT is put in 3-state.", 10 DIN (in) "Data input. DIN receives the DAC input data and register data from the external DSP (digital signal processor) and is synchronized to SCLK and FS. Data is latched at the falling edge of SCLK.", 11 M/S (in) "Master/slave select input. When M/S is high, the device is the master, and when low it is a slave.", 12 ~{PWRDN} (in) "Power down. When P\W\R\D\N\ is pulled low, the device goes into a power-down mode, the serial interface is disabled, and most of the high-speed clocks are disabled. However, all the register values are sustained and the (See Datasheet)", 13 OUTM1 (out) "Inverting output of the DAC. OUTM1 is functionally identical with and complementary to OUTP1. This differential output can drive a maximum load of 600 ohm. This output can also be used alone for single-ended operation.", 14 OUTP1 (out) "Noninverting output of the DAC. This differential output can drive a maximum load of 600 ohm. This output can also be used alone for single-ended operation.", 15 DRVDD (power) "Analog power supply for the 16-ohm drivers OUTP2 and OUTP3", 16 NC "No connection", 17 DRVSS (power) "Analog ground for the 16-ohm drivers OUTP2 and OUTP3", 18 OUTP2 (out) "Analog output number 2 from the 16-ohm driver. This output can drive a maximum load of 16 ohm, and also can be configured as either single-ended output or differential output by the control register 6.", 19 OUTMV (out) "Programmable virtual ground for the output of OUTP2 and OUTP3 (see the Register Map).", 20 OUTP3 (out) "Analog output number 3 from the 16-ohm driver. This output can drive a maximum load of 16 ohm, and also be configured as either single-ended output or differential output by the control register 6.", 21 AVSS (power) "Analog ground", 22 AVDD (power) "Analog power supply", 23 MICIN (in) "MIC preamplifier input. It must be connected to AVSS if not used.", 24 INP2 (in) "Noninverting analog input 2. It must be connected to AVSS if not used.", 25 INM2 (in) "Inverting analog input 2. It must be connected to AVSS if not used.", 26 NC "No connection", 27 BIAS (out) "Bias output voltage is software selectable between 1.35 V and 2.35 V. Its output current is 5 mA.", 28 INM1 (in) "Inverting analog input 1. It must be connected to AVSS if not used.", 29 INP1 (in) "Noninverting analog input 1. It must be connected to AVSS if not used.", 30 ~{RESET} (in) "Hardware reset. The reset function is provided to initialize all of the internal registers to their default values. The serial port is configured to the default state accordingly.", 31 MCLK (in) "Master clock. MCLK derives the internal clocks of the sigma-delta analog interface circuit.", 32 SCL (in) "Programmable host port (I2C or S2C) clock input.", 33 EP (power) "Exposed Thermal Pad"

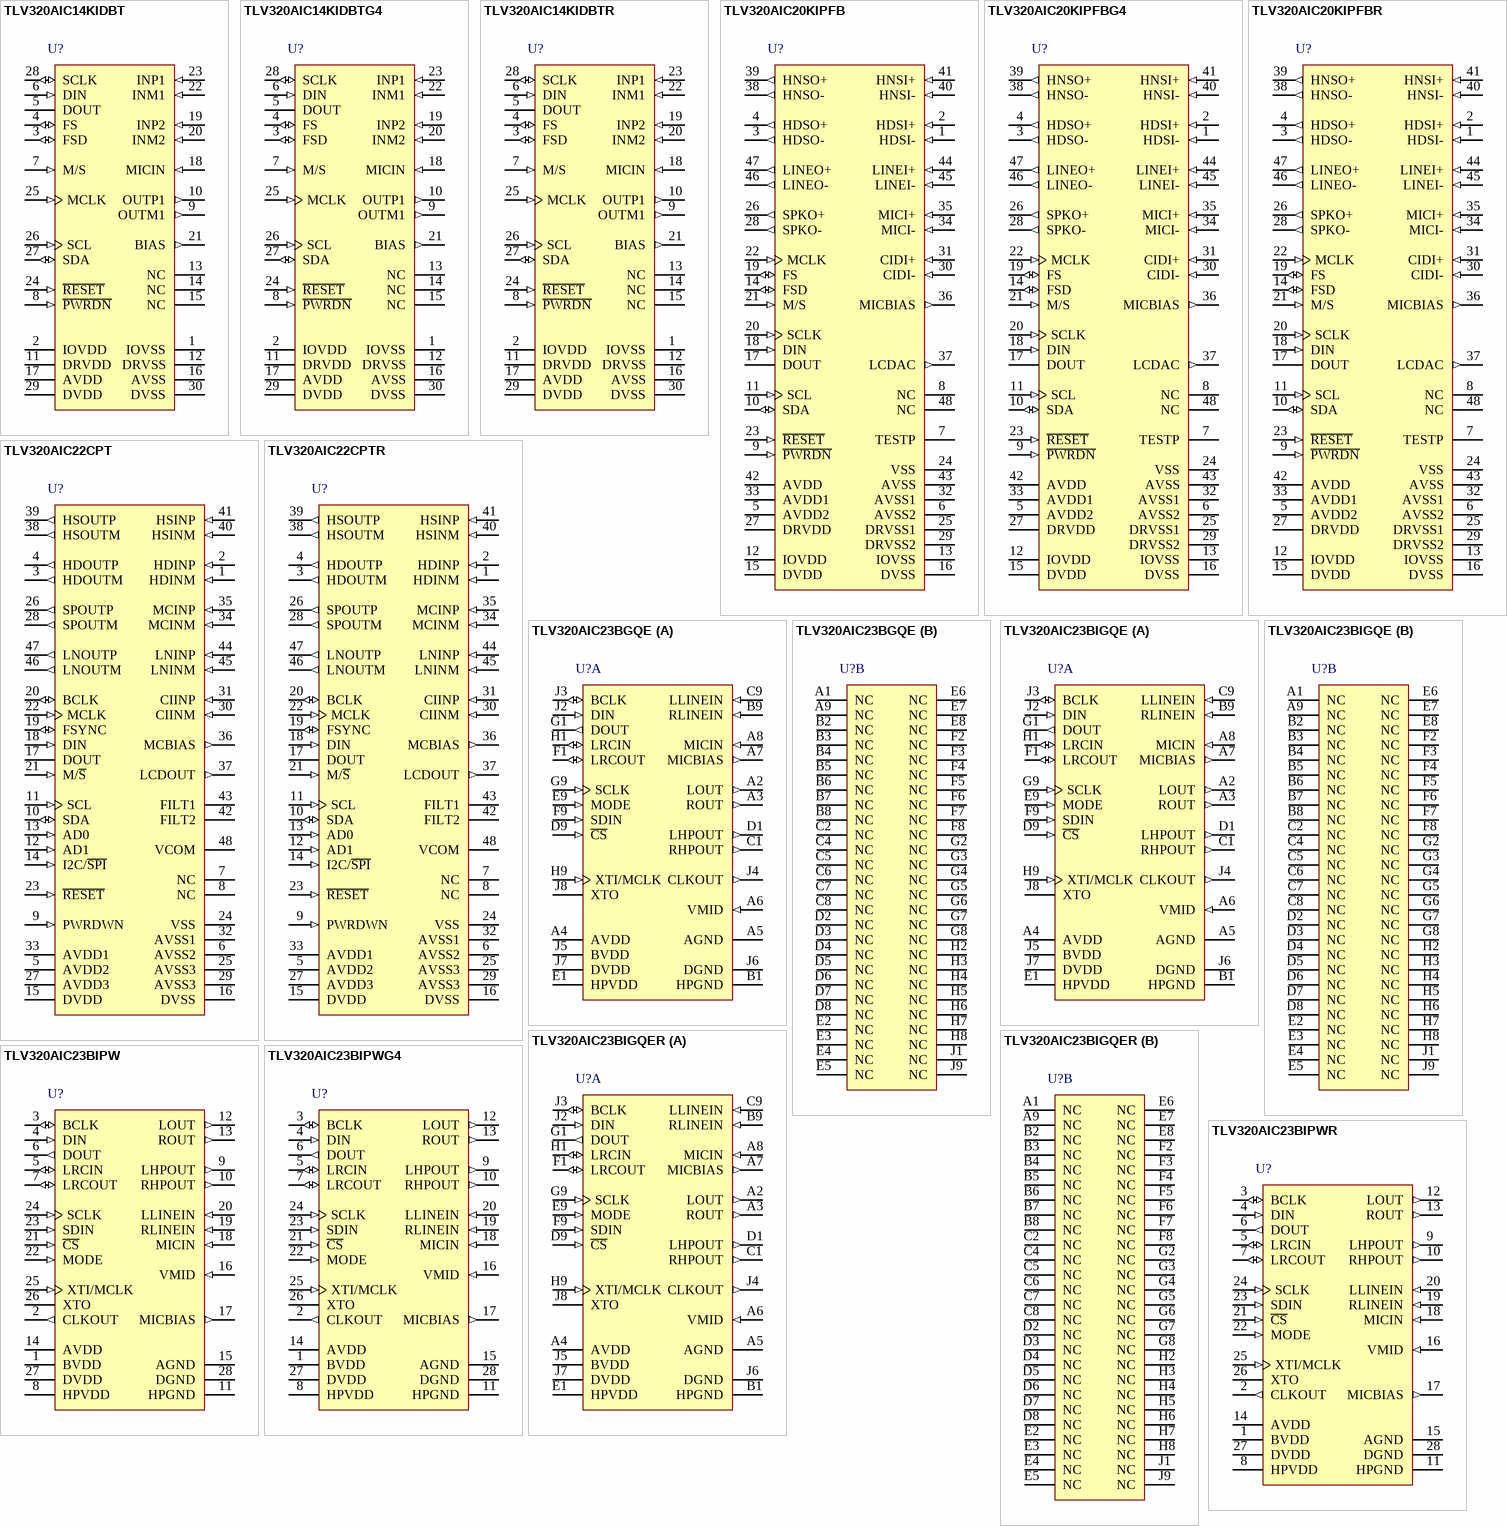
[diagram p7: symbols TLV320AIC14KIDBT to TLV320AIC23BIPWR]

## TLV320AIC14KIDBT
designator U?
Low-Power Mono Voice Band CODEC with 1 ADC and 1 DAC, 92 dB DAC SNR, -40 to 85 degC, 30-pin TSSOP (DBT), Green (RoHS & no Sb/Br); Manufacturer: Texas Instruments; PartNumber: TLV320AIC14KIDBT; # ADCs (typ): 1; Battery Powered: TRUE; Control Interface: I2C, S2C; DAC SNR: 92; Digital Audio Interfaces: DSP, SMART TDM; Sampling Rate (Max) (kHz): 26; DatasheetVersion: SLWS115E; PackageVersion: Sep-2005; PackageReference: DBT30; PackageDescription: 30-Pin Thin Shrink Small Outline Package 0.5 mm Pitch; Supplier 1: Digi-Key; Supplier Part Number 1: 296-19635-5-ND; Supplier 2: Newark; Supplier Part Number 2: 63K6491; Supplier 3: Mouser; Supplier Part Number 3: 595-TLV320AIC14KIDBT; # DACs: 1; Mounting Technology: Surface Mount; Code_JEDEC: MO-153; ComponentLink1Description: Datasheet; ComponentLink1URL: http://www.ti.com/general/docs/lit/getliterature.tsp?genericPartNumber=TLV320AIC14K&fileType=pdf
footprint DBT30_N (TSSOP, 30-Leads, Body 7.8x4.4mm, Pitch 0.5mm, IPC Medium Density)
footprint DBT30_L (TSSOP, 30-Leads, Body 7.8x4.4mm, Pitch 0.5mm, IPC High Density)
footprint DBT30_M (TSSOP, 30-Leads, Body 7.8x4.4mm, Pitch 0.5mm, IPC Low Density)
pins: 1 IOVSS (power) "Digital I/O ground", 2 IOVDD (power) "Digital I/O power supply", 3 FSD (io) "Frame sync delayed output. The FSD output synchronizes a slave device to the frame sync of the master device. FSD is applied to the slave FS input and is the same duration as the master FS signal. This pin must be pulled low (See Datasheet)", 4 FS (io) "Frame sync. When FS goes low, DIN begins receiving data bits and DOUT begins transmitting data bits. In master mode, FS is internally generated. In slave mode, FS is externally generated.", 5 DOUT (hiz) "Data output. DOUT transmits the ADC output bits and registers data,and is synchronized to SCLK and FS. Data is sent out at the rising edge of SCLK. Outside data/control frame, DOUT is put in 3-state.", 6 DIN (in) "Data input. DIN receives the DAC input data and register data from the external DSP (digital signal processor) and is synchronized to SCLK  and FS. Data is latched at the falling edge of SCLK.", 7 M/S (in) "Master/slave select input. When M/S is high, the device is the master,and when low it is a slave.", 8 ~{PWRDN} (in) "Power down. When P\W\R\D\N\ is pulled low, the device goes into a power-down mode, the serial interface is disabled, and most of the high-speed clocks are disabled. However, all the register values are sustained and the (See Datasheet)", 9 OUTM1 (out) "Inverting output of the DAC. OUTM1 is functionally identical with and complementary to OUTP1. This differential output can drive a maximum load of 600 W. This output can also be used alone for single-ended operation.", 10 OUTP1 (out) "Noninverting output of the DAC. This differential output can drive a maximum load of 600 W. This output can also be used alone for single-ended operation.", 11 DRVDD (power) "Analog power supply for the 16-W drivers OUTP2 and OUTP3", 12 DRVSS (power) "Analog ground for the 16-W drivers OUTP2 and OUTP3", 13 NC "No connection", 14 NC "No connection", 15 NC "No connection", 16 AVSS (power) "Analog ground", 17 AVDD (power) "Analog power supply", 18 MICIN (in) "MIC preamplifier input. It must be connected to AVSS if not used.", 19 INP2 (in) "Noninverting analog input 2. It must be connected to AVSS if not used.", 20 INM2 (in) "Inverting analog input 2. It must be connected to AVSS if not used.", 21 BIAS (out) "Bias output voltage is software selectable between 1.35 V and 2.35 V.Its output current is 5 mA.", 22 INM1 (in) "Inverting analog input 1. It must be connected to AVSS if not used.", 23 INP1 (in) "Noninverting analog input 1. It must be connected to AVSS if not used.", 24 ~{RESET} (in) "Hardware reset. The reset function is provided to initialize all of the internal registers to their default values. The serial port is configured to the default state accordingly.", 25 MCLK (in) "Master clock. MCLK derives the internal clocks of the sigma-delta analog interface circuit.", 26 SCL (in) "Programmable host port (I2C or S2C) clock input.", 27 SDA (io) "Programmable host port (I2C or S2C) data line.", 28 SCLK (io) "Shift clock. SCLK signal clocks serial data into DIN and out of DOUT during the frame-sync interval. When configured as an output (M/S high), SCLK is generated internally by multiplying the frame-sync signal frequency by 16 (See Datasheet)", 29 DVDD (power) "Digital power supply", 30 DVSS (power) "Digital ground"